# EAGLE library part AD8410 (library AD8410)
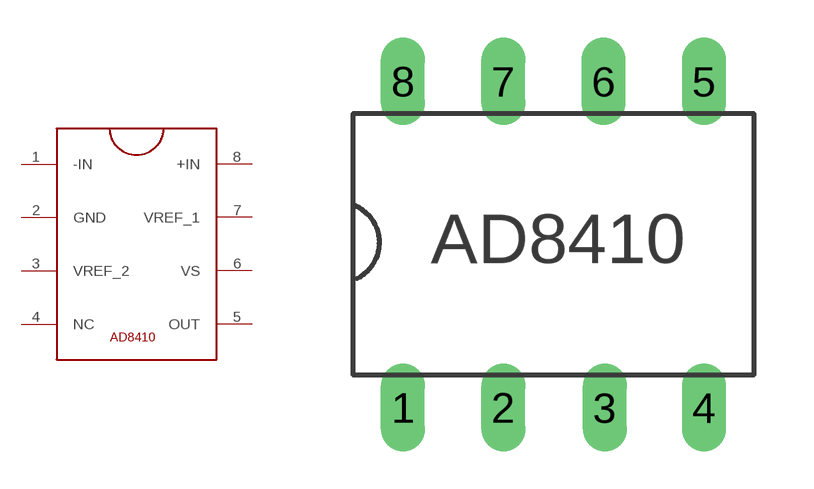
[diagram p0: symbol with the pads of AD8410; footprint AD8410]

Designator prefix -

## AD8410AD8410_V1  [AD8410]
1  -IN
2  GND
3  VREF_2
4  NC
5  OUT
6  VS
7  VREF_1
8  +IN

## Footprint AD8410 (pad centres in mm)
drill 0.6 long: 1 1.27,-0.83; 2 3.81,-0.83; 3 6.38,-0.83; 4 8.89,-0.83; 5 8.89,7.43; 6 6.35,7.43; 7 3.81,7.43; 8 1.27,7.43